# EAGLE library part 750310742 (library 750310742)
Transformer for Power-over-Ethernet WE-PoE+ Source: Datasheet
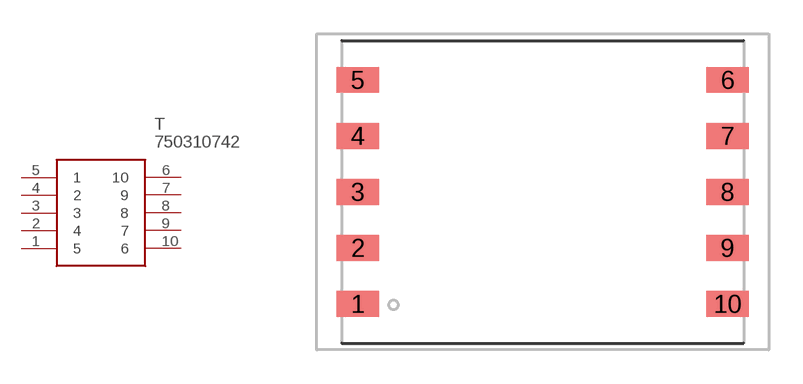
[diagram p0: symbol with the pads of WE_EP13_SMD_10PIN64; footprint WE_EP13_SMD_10PIN64]

Designator prefix T

## 750310742 (Description: Transformer for Power-over-Ethernet WE-PoE+; Height: mm; Manufacturer_Name: Wurth Elektronik; Manufacturer_Part_Number: 750310742; Mouser_Part_Number: 710-750310742; Mouser_Price-Stock: https://www.mouser.co.uk/ProductDetail/Wurth-Elektronik/750310742?qs=2sV1BwmkawTx1XpQEE2odg%3D%3D)  [WE_EP13_SMD_10PIN64]
1  5
2  4
3  3
4  2
5  1
6  10
7  9
8  8
9  7
10  6

## Footprint WE_EP13_SMD_10PIN64 (pad centres in mm)
WE_EP13_SMD_10PIN64
smd 1.88 x 1.143: 1 -8.18,-4.96; 2 -8.18,-2.48; 3 -8.18,0; 4 -8.18,2.48; 5 -8.18,4.96; 6 8.18,4.96; 7 8.18,2.48; 8 8.18,0; 9 8.18,-2.48; 10 8.18,-4.96